# Altium schematic symbol library RLC.SchLib: 3 symbols
Pins are listed as number, name and electrical type; pins without a type are passive.

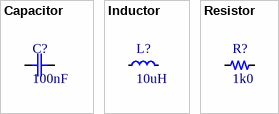
[diagram p0: symbols Capacitor to Resistor]

## Capacitor
designator C?, comment 100nF
Capacitor without polarity; Voltage: 25V; Part number: *; Manufacturer: *; Unit price: *; Value: 100nF
footprint C0805 (Ceramic capacitor 0805)
footprint C0603 (SMT CAPACITOR 0603)
footprint C1206 (SMT CAPACITOR 1206)
footprint C1210 (SMT CAPACITOR 1210)
footprint C1808 (SMT CAPACITOR 1808)
footprint C1812 (SMT CAPACITOR 1812)
footprint C2220 (SMT CAPACITOR 2220)
footprint C5040 (SMT CAPACITOR 5040)
footprint C6054 (SMT CAPACITOR 6054)
pins: 1, 2
1 alternate drawing of the same symbol

## Inductor
designator L?, comment 10uH
Inductor for low power; Max. current: 0.5A; Core type: Ferrite; Manufacturer: *; Part number: *; Value: 10uH; Unit price: 0.1
footprint L0603 (SMT INDUCTOR 0603)
footprint L0805 (SMT INDUCTOR 0805)
footprint L1210 (SMT INDUCTOR 1210)
footprint L1210-C (SMT INDUCTOR 1210)
footprint L1515-AH (SMT INDUCTOR 1515 - 4mm x 4mm)
pins: 1, 2

## Resistor
designator R?, comment 1k0
Single resistor; Power: 0.125W; Manufacturer: *; Part number: *; Value: 1k0; Unit price: 0.1
footprint R0603 (SMD RESISTOR 0603)
footprint R0805 (SMD RESISTOR 0805)
footprint R1206 (SMD RESISTOR 1206)
footprint R1210 (SMD RESISTOR 1210)
footprint R2512 (SMD RESISTOR 2512)
pins: 1, 2